# Altium integrated library Analog Devices Operational Amplifiers.IntLib: 2102 symbols (part 70 of 70)
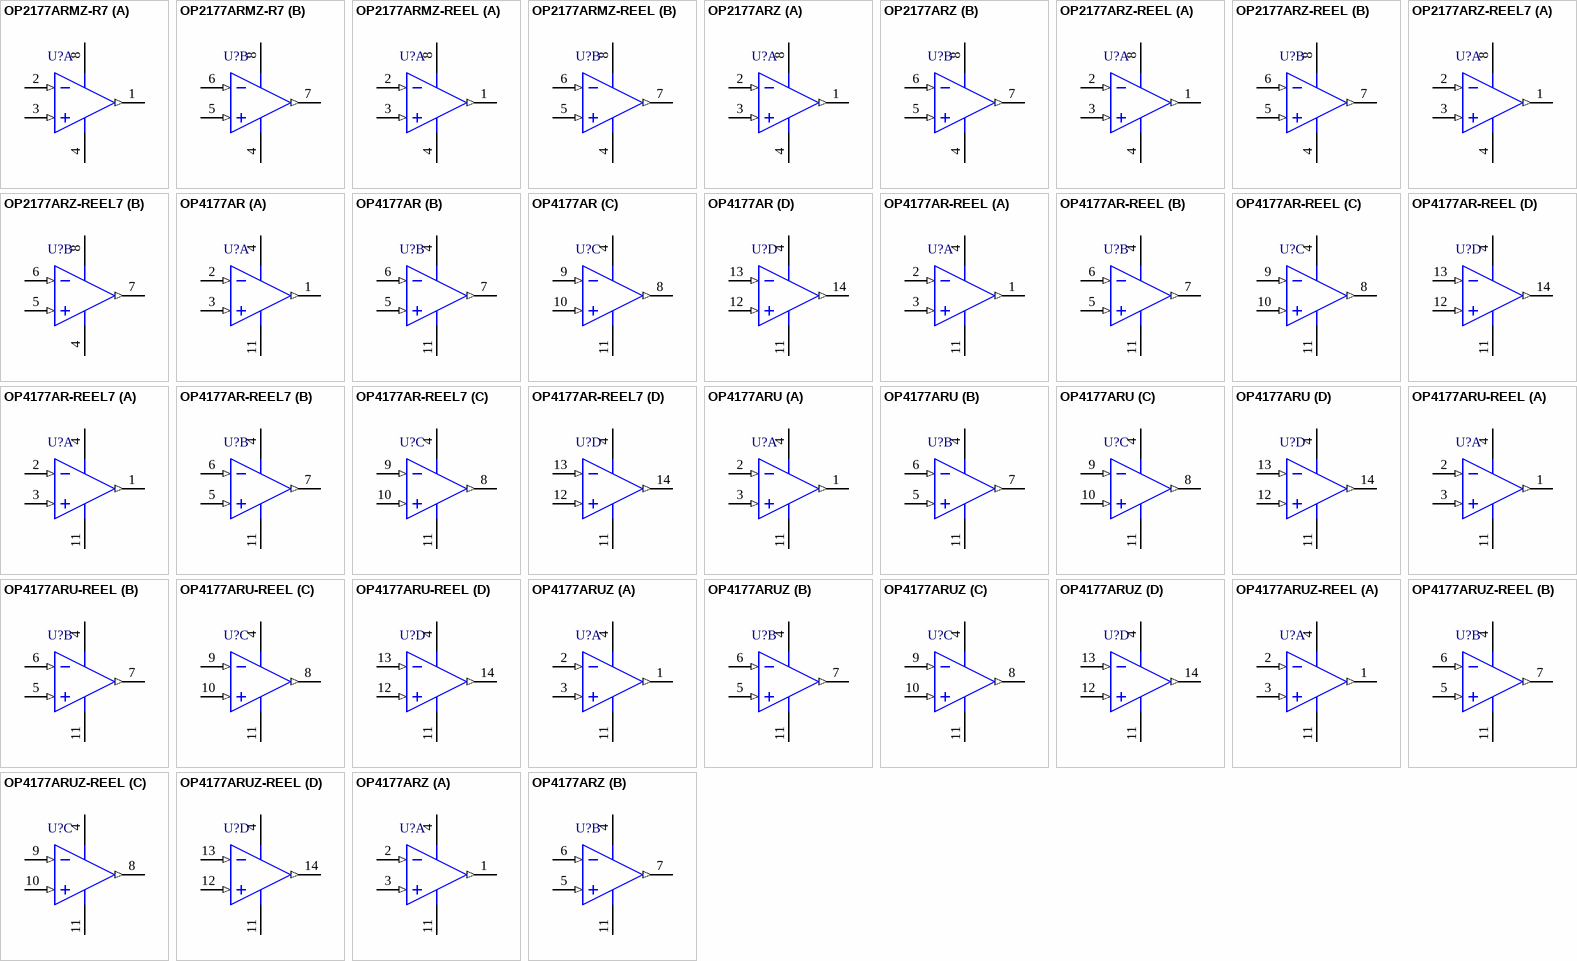
[diagram p183: symbols OP2177ARMZ-R7 to OP4177ARZ]

## OP4177AR-REEL
designator U?
Quad Channel Low Offset Voltage Operational Amplifier, 1.3 MHz BW, 700 mV/us SR, Industrial, 14-pin SOIC (R-14), Reel; Generic Part Number: OP4177; Manufacturer: Analog Devices; PartNumber: OP4177AR-REEL; Amplifiers Per Package: 4; Input Bias Current: 500pA; Input Offset Voltage: 15uV; Iq/Amp: 500uA; Small Signal Bandwidth: 1.3MHz; V Span Max: 36V; V Span Min: 5V; DatasheetVersion: Rev. G; PackageVersion: 060606-A; PackageReference: R-14; PackageDescription: 14-Pin Standard Small Outline Package, Body 8.65 x 3.9 mm, Pitch 1.27 mm; Supplier 1: Digi-Key; Supplier Part Number 1: OP4177AR-REEL-ND; Supplier 2: Newark; Supplier Part Number 2: 02H2605; Slew Rate: 700mV/us; Mounting Technology: Surface Mount; Code_JEDEC: MS-012-AB; ComponentLink1Description: Manufacturer URL; ComponentLink1URL: http://www.analog.com/en/index.html; ComponentLink2Description: Datasheet; ComponentLink2URL: http://www.analog.com/static/imported-files/data_sheets/OP1177_2177_4177.pdf; ComponentLink3Description: Package Specification; ComponentLink3URL: http://www.analog.com/static/imported-files/packages/PKG_PDF/SOIC_Narrow%20(R)/R_14.pdf
footprint ADI-R-14_N (SOIC, 14-Leads, Body 8.65x3.9mm, Pitch 1.27mm, IPC Medium Density)
footprint ADI-R-14_L (SOIC, 14-Leads, Body 8.65x3.9mm, Pitch 1.27mm, IPC High Density)
footprint ADI-R-14_M (SOIC, 14-Leads, Body 8.65x3.9mm, Pitch 1.27mm, IPC Low Density)
pins on every part: 4 +V (power), 11 -V (power)
part A pins: 1 OUT A (out), 2 -IN A (in), 3 +IN A (in)
part B pins: 5 +IN B (in), 6 -IN B (in), 7 OUT B (out)
part C pins: 8 OUT C (out), 9 -IN C (in), 10 +IN C (in)
part D pins: 12 +IN D (in), 13 -IN D (in), 14 OUT D (out)

## OP4177AR-REEL7
designator U?
Quad Channel Low Offset Voltage Operational Amplifier, 1.3 MHz BW, 700 mV/us SR, Industrial, 14-pin SOIC (R-14), Reel; Generic Part Number: OP4177; Manufacturer: Analog Devices; PartNumber: OP4177AR-REEL7; Amplifiers Per Package: 4; Input Bias Current: 500pA; Input Offset Voltage: 15uV; Iq/Amp: 500uA; Small Signal Bandwidth: 1.3MHz; V Span Max: 36V; V Span Min: 5V; DatasheetVersion: Rev. G; PackageVersion: 060606-A; PackageReference: R-14; PackageDescription: 14-Pin Standard Small Outline Package, Body 8.65 x 3.9 mm, Pitch 1.27 mm; Supplier 1: Digi-Key; Supplier Part Number 1: OP4177AR-REEL7-ND; Supplier 2: Newark; Supplier Part Number 2: 02H2606; Slew Rate: 700mV/us; Mounting Technology: Surface Mount; Code_JEDEC: MS-012-AB; ComponentLink1Description: Manufacturer URL; ComponentLink1URL: http://www.analog.com/en/index.html; ComponentLink2Description: Datasheet; ComponentLink2URL: http://www.analog.com/static/imported-files/data_sheets/OP1177_2177_4177.pdf; ComponentLink3Description: Package Specification; ComponentLink3URL: http://www.analog.com/static/imported-files/packages/PKG_PDF/SOIC_Narrow%20(R)/R_14.pdf
footprint ADI-R-14_N (SOIC, 14-Leads, Body 8.65x3.9mm, Pitch 1.27mm, IPC Medium Density)
footprint ADI-R-14_L (SOIC, 14-Leads, Body 8.65x3.9mm, Pitch 1.27mm, IPC High Density)
footprint ADI-R-14_M (SOIC, 14-Leads, Body 8.65x3.9mm, Pitch 1.27mm, IPC Low Density)
pins on every part: 4 +V (power), 11 -V (power)
part A pins: 1 OUT A (out), 2 -IN A (in), 3 +IN A (in)
part B pins: 5 +IN B (in), 6 -IN B (in), 7 OUT B (out)
part C pins: 8 OUT C (out), 9 -IN C (in), 10 +IN C (in)
part D pins: 12 +IN D (in), 13 -IN D (in), 14 OUT D (out)

## OP4177ARU
designator U?
Quad Channel Low Offset Voltage Operational Amplifier, 1.3 MHz BW, 700 mV/us SR, Industrial, 14-pin SOP (RU-14), Tube; Generic Part Number: OP4177; Manufacturer: Analog Devices; PartNumber: OP4177ARU; Amplifiers Per Package: 4; Input Bias Current: 500pA; Input Offset Voltage: 15uV; Iq/Amp: 500uA; Small Signal Bandwidth: 1.3MHz; V Span Max: 36V; V Span Min: 5V; DatasheetVersion: Rev. G; PackageReference: RU-14; PackageDescription: 14-Pin Thin Shrink Small Outline Package, Body 5 x 4.4 mm, Pitch 0.65 mm; Supplier 1: Digi-Key; Supplier Part Number 1: OP4177ARU-ND; Supplier 2: Newark; Supplier Part Number 2: 02E2294; Slew Rate: 700mV/us; Mounting Technology: Surface Mount; Code_JEDEC: MO-153AB-1; ComponentLink1Description: Manufacturer URL; ComponentLink1URL: http://www.analog.com/en/index.html; ComponentLink2Description: Datasheet; ComponentLink2URL: http://www.analog.com/static/imported-files/data_sheets/OP1177_2177_4177.pdf; ComponentLink3Description: Package Specification; ComponentLink3URL: http://www.analog.com/static/imported-files/packages/36057385283879153717235186773RU14.pdf
footprint ADI-RU-14_N (SOP, 14-Leads, Body 5x4.4mm, Pitch 0.65mm, IPC Medium Density)
footprint ADI-RU-14_L (SOP, 14-Leads, Body 5x4.4mm, Pitch 0.65mm, IPC High Density)
footprint ADI-RU-14_M (SOP, 14-Leads, Body 5x4.4mm, Pitch 0.65mm, IPC Low Density)
pins on every part: 4 +V (power), 11 -V (power)
part A pins: 1 OUT A (out), 2 -IN A (in), 3 +IN A (in)
part B pins: 5 +IN B (in), 6 -IN B (in), 7 OUT B (out)
part C pins: 8 OUT C (out), 9 -IN C (in), 10 +IN C (in)
part D pins: 12 +IN D (in), 13 -IN D (in), 14 OUT D (out)

## OP4177ARU-REEL
designator U?
Quad Channel Low Offset Voltage Operational Amplifier, 1.3 MHz BW, 700 mV/us SR, Industrial, 14-pin SOP (RU-14)), Reel; Generic Part Number: OP4177; Manufacturer: Analog Devices; PartNumber: OP4177ARU-REEL; Amplifiers Per Package: 4; Input Bias Current: 500pA; Input Offset Voltage: 15uV; Iq/Amp: 500uA; Small Signal Bandwidth: 1.3MHz; V Span Max: 36V; V Span Min: 5V; DatasheetVersion: Rev. G; PackageReference: RU-14; PackageDescription: 14-Pin Thin Shrink Small Outline Package, Body 5 x 4.4 mm, Pitch 0.65 mm; Supplier 1: Digi-Key; Supplier Part Number 1: OP4177ARU-REEL-ND; Supplier 2: Newark; Supplier Part Number 2: 88C9576; Slew Rate: 700mV/us; Mounting Technology: Surface Mount; Code_JEDEC: MO-153AB-1; ComponentLink1Description: Manufacturer URL; ComponentLink1URL: http://www.analog.com/en/index.html; ComponentLink2Description: Datasheet; ComponentLink2URL: http://www.analog.com/static/imported-files/data_sheets/OP1177_2177_4177.pdf; ComponentLink3Description: Package Specification; ComponentLink3URL: http://www.analog.com/static/imported-files/packages/36057385283879153717235186773RU14.pdf
footprint ADI-RU-14_N (SOP, 14-Leads, Body 5x4.4mm, Pitch 0.65mm, IPC Medium Density)
footprint ADI-RU-14_L (SOP, 14-Leads, Body 5x4.4mm, Pitch 0.65mm, IPC High Density)
footprint ADI-RU-14_M (SOP, 14-Leads, Body 5x4.4mm, Pitch 0.65mm, IPC Low Density)
pins on every part: 4 +V (power), 11 -V (power)
part A pins: 1 OUT A (out), 2 -IN A (in), 3 +IN A (in)
part B pins: 5 +IN B (in), 6 -IN B (in), 7 OUT B (out)
part C pins: 8 OUT C (out), 9 -IN C (in), 10 +IN C (in)
part D pins: 12 +IN D (in), 13 -IN D (in), 14 OUT D (out)

## OP4177ARUZ
designator U?
Quad Channel Low Offset Voltage Operational Amplifier, 1.3 MHz BW, 700 mV/us SR, Industrial, 14-pin SOP (RU-14), Tube; Generic Part Number: OP4177; Manufacturer: Analog Devices; PartNumber: OP4177ARUZ; Amplifiers Per Package: 4; Input Bias Current: 500pA; Input Offset Voltage: 15uV; Iq/Amp: 500uA; Small Signal Bandwidth: 1.3MHz; V Span Max: 36V; V Span Min: 5V; DatasheetVersion: Rev. G; PackageReference: RU-14; PackageDescription: 14-Pin Thin Shrink Small Outline Package, Body 5 x 4.4 mm, Pitch 0.65 mm; Supplier 1: Digi-Key; Supplier Part Number 1: OP4177ARUZ-ND; Supplier 2: Farnell; Supplier Part Number 2: 1661004; Supplier 3: Newark; Supplier Part Number 3: 19M8985; Slew Rate: 700mV/us; Mounting Technology: Surface Mount; Code_JEDEC: MO-153AB-1; ComponentLink1Description: Manufacturer URL; ComponentLink1URL: http://www.analog.com/en/index.html; ComponentLink2Description: Datasheet; ComponentLink2URL: http://www.analog.com/static/imported-files/data_sheets/OP1177_2177_4177.pdf; ComponentLink3Description: Package Specification; ComponentLink3URL: http://www.analog.com/static/imported-files/packages/36057385283879153717235186773RU14.pdf
footprint ADI-RU-14_N (SOP, 14-Leads, Body 5x4.4mm, Pitch 0.65mm, IPC Medium Density)
footprint ADI-RU-14_L (SOP, 14-Leads, Body 5x4.4mm, Pitch 0.65mm, IPC High Density)
footprint ADI-RU-14_M (SOP, 14-Leads, Body 5x4.4mm, Pitch 0.65mm, IPC Low Density)
pins on every part: 4 +V (power), 11 -V (power)
part A pins: 1 OUT A (out), 2 -IN A (in), 3 +IN A (in)
part B pins: 5 +IN B (in), 6 -IN B (in), 7 OUT B (out)
part C pins: 8 OUT C (out), 9 -IN C (in), 10 +IN C (in)
part D pins: 12 +IN D (in), 13 -IN D (in), 14 OUT D (out)

## OP4177ARUZ-REEL
designator U?
Quad Channel Low Offset Voltage Operational Amplifier, 1.3 MHz BW, 700 mV/us SR, Industrial, 14-pin SOP (RU-14)), Reel; Generic Part Number: OP4177; Manufacturer: Analog Devices; PartNumber: OP4177ARUZ-REEL; Amplifiers Per Package: 4; Input Bias Current: 500pA; Input Offset Voltage: 15uV; Iq/Amp: 500uA; Small Signal Bandwidth: 1.3MHz; V Span Max: 36V; V Span Min: 5V; DatasheetVersion: Rev. G; PackageReference: RU-14; PackageDescription: 14-Pin Thin Shrink Small Outline Package, Body 5 x 4.4 mm, Pitch 0.65 mm; Supplier 1: Digi-Key; Supplier Part Number 1: OP4177ARUZ-REELTR-ND; Supplier 2: Digi-Key; Supplier Part Number 2: OP4177ARUZ-REELCT-ND; Supplier 3: Digi-Key; Supplier Part Number 3: OP4177ARUZ-REELDKR-ND; Supplier 4: Newark; Supplier Part Number 4: 59K8901; Slew Rate: 700mV/us; Mounting Technology: Surface Mount; Code_JEDEC: MO-153AB-1; ComponentLink1Description: Manufacturer URL; ComponentLink1URL: http://www.analog.com/en/index.html; ComponentLink2Description: Datasheet; ComponentLink2URL: http://www.analog.com/static/imported-files/data_sheets/OP1177_2177_4177.pdf; ComponentLink3Description: Package Specification; ComponentLink3URL: http://www.analog.com/static/imported-files/packages/36057385283879153717235186773RU14.pdf
footprint ADI-RU-14_N (SOP, 14-Leads, Body 5x4.4mm, Pitch 0.65mm, IPC Medium Density)
footprint ADI-RU-14_L (SOP, 14-Leads, Body 5x4.4mm, Pitch 0.65mm, IPC High Density)
footprint ADI-RU-14_M (SOP, 14-Leads, Body 5x4.4mm, Pitch 0.65mm, IPC Low Density)
pins on every part: 4 +V (power), 11 -V (power)
part A pins: 1 OUT A (out), 2 -IN A (in), 3 +IN A (in)
part B pins: 5 +IN B (in), 6 -IN B (in), 7 OUT B (out)
part C pins: 8 OUT C (out), 9 -IN C (in), 10 +IN C (in)
part D pins: 12 +IN D (in), 13 -IN D (in), 14 OUT D (out)

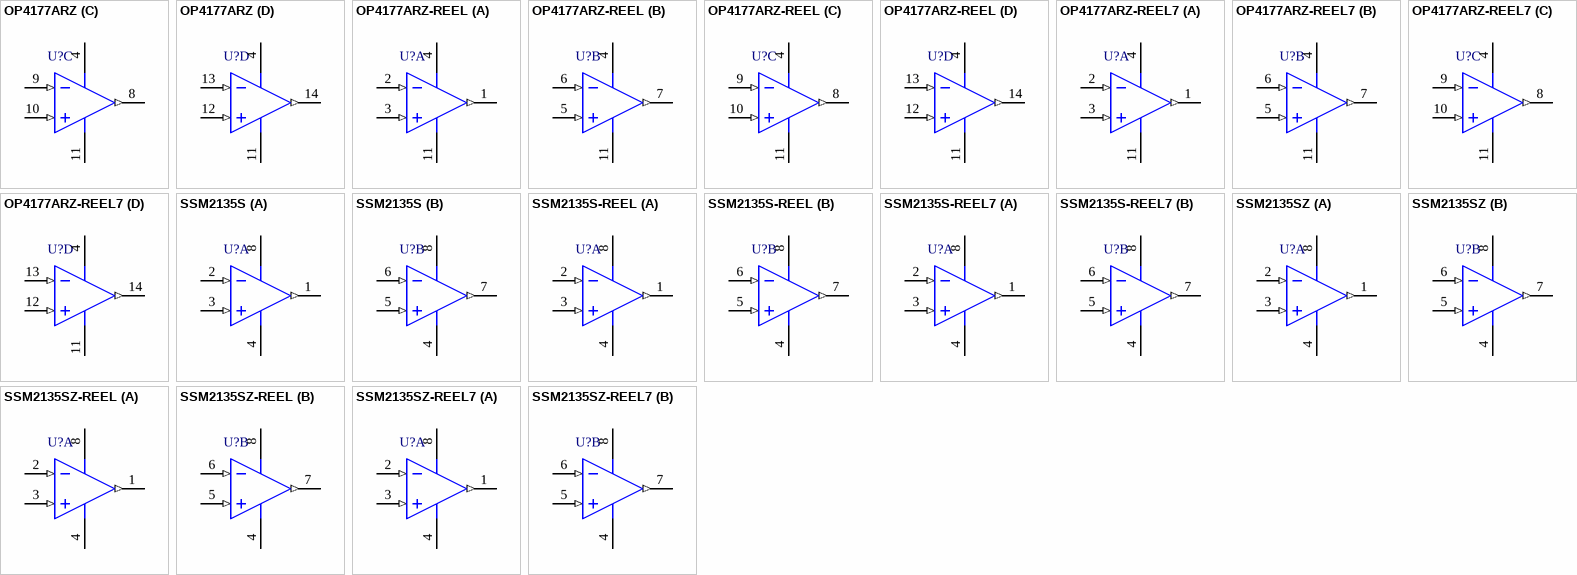
[diagram p114: symbols OP4177ARZ to SSM2135SZ-REEL7]

## OP4177ARZ
designator U?
Quad Channel Low Offset Voltage Operational Amplifier, 1.3 MHz BW, 700 mV/us SR, Industrial, 14-pin SOIC (R-14), Tube; Generic Part Number: OP4177; Manufacturer: Analog Devices; PartNumber: OP4177ARZ; Amplifiers Per Package: 4; Input Bias Current: 500pA; Input Offset Voltage: 15uV; Iq/Amp: 500uA; Small Signal Bandwidth: 1.3MHz; V Span Max: 36V; V Span Min: 5V; DatasheetVersion: Rev. G; PackageVersion: 060606-A; PackageReference: R-14; PackageDescription: 14-Pin Standard Small Outline Package, Body 8.65 x 3.9 mm, Pitch 1.27 mm; Supplier 1: Digi-Key; Supplier Part Number 1: OP4177ARZ-ND; Supplier 2: Farnell; Supplier Part Number 2: 1389170; Supplier 3: Newark; Supplier Part Number 3: 59K8902; Slew Rate: 700mV/us; Mounting Technology: Surface Mount; Code_JEDEC: MS-012-AB; ComponentLink1Description: Manufacturer URL; ComponentLink1URL: http://www.analog.com/en/index.html; ComponentLink2Description: Datasheet; ComponentLink2URL: http://www.analog.com/static/imported-files/data_sheets/OP1177_2177_4177.pdf; ComponentLink3Description: Package Specification; ComponentLink3URL: http://www.analog.com/static/imported-files/packages/PKG_PDF/SOIC_Narrow%20(R)/R_14.pdf
footprint ADI-R-14_N (SOIC, 14-Leads, Body 8.65x3.9mm, Pitch 1.27mm, IPC Medium Density)
footprint ADI-R-14_L (SOIC, 14-Leads, Body 8.65x3.9mm, Pitch 1.27mm, IPC High Density)
footprint ADI-R-14_M (SOIC, 14-Leads, Body 8.65x3.9mm, Pitch 1.27mm, IPC Low Density)
pins on every part: 4 +V (power), 11 -V (power)
part A pins: 1 OUT A (out), 2 -IN A (in), 3 +IN A (in)
part B pins: 5 +IN B (in), 6 -IN B (in), 7 OUT B (out)
part C pins: 8 OUT C (out), 9 -IN C (in), 10 +IN C (in)
part D pins: 12 +IN D (in), 13 -IN D (in), 14 OUT D (out)

## OP4177ARZ-REEL
designator U?
Quad Channel Low Offset Voltage Operational Amplifier, 1.3 MHz BW, 700 mV/us SR, Industrial, 14-pin SOIC (R-14)), Reel; Generic Part Number: OP4177; Manufacturer: Analog Devices; PartNumber: OP4177ARZ-REEL; Amplifiers Per Package: 4; Input Bias Current: 500pA; Input Offset Voltage: 15uV; Iq/Amp: 500uA; Small Signal Bandwidth: 1.3MHz; V Span Max: 36V; V Span Min: 5V; DatasheetVersion: Rev. G; PackageVersion: 060606-A; PackageReference: R-14; PackageDescription: 14-Pin Standard Small Outline Package, Body 8.65 x 3.9 mm, Pitch 1.27 mm; Supplier 1: Digi-Key; Supplier Part Number 1: OP4177ARZ-REEL-ND; Slew Rate: 700mV/us; Mounting Technology: Surface Mount; Code_JEDEC: MS-012-AB; ComponentLink1Description: Manufacturer URL; ComponentLink1URL: http://www.analog.com/en/index.html; ComponentLink2Description: Datasheet; ComponentLink2URL: http://www.analog.com/static/imported-files/data_sheets/OP1177_2177_4177.pdf; ComponentLink3Description: Package Specification; ComponentLink3URL: http://www.analog.com/static/imported-files/packages/PKG_PDF/SOIC_Narrow%20(R)/R_14.pdf
footprint ADI-R-14_N (SOIC, 14-Leads, Body 8.65x3.9mm, Pitch 1.27mm, IPC Medium Density)
footprint ADI-R-14_L (SOIC, 14-Leads, Body 8.65x3.9mm, Pitch 1.27mm, IPC High Density)
footprint ADI-R-14_M (SOIC, 14-Leads, Body 8.65x3.9mm, Pitch 1.27mm, IPC Low Density)
pins on every part: 4 +V (power), 11 -V (power)
part A pins: 1 OUT A (out), 2 -IN A (in), 3 +IN A (in)
part B pins: 5 +IN B (in), 6 -IN B (in), 7 OUT B (out)
part C pins: 8 OUT C (out), 9 -IN C (in), 10 +IN C (in)
part D pins: 12 +IN D (in), 13 -IN D (in), 14 OUT D (out)

## OP4177ARZ-REEL7
designator U?
Quad Channel Low Offset Voltage Operational Amplifier, 1.3 MHz BW, 700 mV/us SR, Industrial, 14-pin SOIC (R-14), Reel; Generic Part Number: OP4177; Manufacturer: Analog Devices; PartNumber: OP4177ARZ-REEL7; Amplifiers Per Package: 4; Input Bias Current: 500pA; Input Offset Voltage: 15uV; Iq/Amp: 500uA; Small Signal Bandwidth: 1.3MHz; V Span Max: 36V; V Span Min: 5V; DatasheetVersion: Rev. G; PackageVersion: 060606-A; PackageReference: R-14; PackageDescription: 14-Pin Standard Small Outline Package, Body 8.65 x 3.9 mm, Pitch 1.27 mm; Supplier 1: Digi-Key; Supplier Part Number 1: OP4177ARZ-REEL7-ND; Supplier 2: Newark; Supplier Part Number 2: 59K8904; Slew Rate: 700mV/us; Mounting Technology: Surface Mount; Code_JEDEC: MS-012-AB; ComponentLink1Description: Manufacturer URL; ComponentLink1URL: http://www.analog.com/en/index.html; ComponentLink2Description: Datasheet; ComponentLink2URL: http://www.analog.com/static/imported-files/data_sheets/OP1177_2177_4177.pdf; ComponentLink3Description: Package Specification; ComponentLink3URL: http://www.analog.com/static/imported-files/packages/PKG_PDF/SOIC_Narrow%20(R)/R_14.pdf
footprint ADI-R-14_N (SOIC, 14-Leads, Body 8.65x3.9mm, Pitch 1.27mm, IPC Medium Density)
footprint ADI-R-14_L (SOIC, 14-Leads, Body 8.65x3.9mm, Pitch 1.27mm, IPC High Density)
footprint ADI-R-14_M (SOIC, 14-Leads, Body 8.65x3.9mm, Pitch 1.27mm, IPC Low Density)
pins on every part: 4 +V (power), 11 -V (power)
part A pins: 1 OUT A (out), 2 -IN A (in), 3 +IN A (in)
part B pins: 5 +IN B (in), 6 -IN B (in), 7 OUT B (out)
part C pins: 8 OUT C (out), 9 -IN C (in), 10 +IN C (in)
part D pins: 12 +IN D (in), 13 -IN D (in), 14 OUT D (out)

## SSM2135S
designator U?
Double Channel Excellent Sonic Characteristics Operational Amplifier, 3.5 MHz BW, 900 mV/us SR, Industrial, 8-pin SOIC (R-8), Tube; Generic Part Number: SSM2135; Manufacturer: Analog Devices; PartNumber: SSM2135S; Amplifiers Per Package: 2; Input Bias Current: 300nA; Input Offset Voltage: 200uV; Iq/Amp: 3.8mA; Small Signal Bandwidth: 3.5MHz; V Span Max: 36V; V Span Min: 4V; DatasheetVersion: Rev. G; PackageVersion: 060506-A; PackageReference: R-8; PackageDescription: 8-Pin Standard Small Outline Package, Body 3.9 x 4.9 mm, Pitch 1.27 mm; Supplier 1: Digi-Key; Supplier Part Number 1: SSM2135S-ND; Slew Rate: 900mV/us; Mounting Technology: Surface Mount; Code_JEDEC: MS-012-AA; ComponentLink1Description: Manufacturer URL; ComponentLink1URL: http://www.analog.com/en/index.html; ComponentLink2Description: Datasheet; ComponentLink2URL: http://www.analog.com/static/imported-files/data_sheets/SSM2135.pdf; ComponentLink3Description: Package Specification; ComponentLink3URL: http://www.analog.com/static/imported-files/packages/PKG_PDF/SOIC_Narrow%20(R)/R_8.pdf
footprint ADI-R-8_N (SOIC, 8-Leads, Body 4.9x3.9mm, Pitch 1.27mm, IPC Medium Density)
footprint ADI-R-8_L (SOIC, 8-Leads, Body 4.9x3.9mm, Pitch 1.27mm, IPC High Density)
footprint ADI-R-8_M (SOIC, 8-Leads, Body 4.9x3.9mm, Pitch 1.27mm, IPC Low Density)
pins on every part: 4 V-/GND (power), 8 +V (power)
part A pins: 1 OUT A (out), 2 -IN A (in), 3 +IN A (in)
part B pins: 5 +IN B (in), 6 -IN B (in), 7 OUT B (out)

## SSM2135S-REEL
designator U?
Double Channel Excellent Sonic Characteristics Operational Amplifier, 3.5 MHz BW, 900 mV/us SR, Industrial, 8-pin SOIC (R-8), Reel; Generic Part Number: SSM2135; Manufacturer: Analog Devices; PartNumber: SSM2135S-REEL; Amplifiers Per Package: 2; Input Bias Current: 300nA; Input Offset Voltage: 200uV; Iq/Amp: 3.8mA; Small Signal Bandwidth: 3.5MHz; V Span Max: 36V; V Span Min: 4V; DatasheetVersion: Rev. G; PackageVersion: 060506-A; PackageReference: R-8; PackageDescription: 8-Pin Standard Small Outline Package, Body 3.9 x 4.9 mm, Pitch 1.27 mm; Supplier 1: Digi-Key; Supplier Part Number 1: SSM2135S-REEL-ND; Supplier 2: Newark; Supplier Part Number 2: 13B4807; Slew Rate: 900mV/us; Mounting Technology: Surface Mount; Code_JEDEC: MS-012-AA; ComponentLink1Description: Manufacturer URL; ComponentLink1URL: http://www.analog.com/en/index.html; ComponentLink2Description: Datasheet; ComponentLink2URL: http://www.analog.com/static/imported-files/data_sheets/SSM2135.pdf; ComponentLink3Description: Package Specification; ComponentLink3URL: http://www.analog.com/static/imported-files/packages/PKG_PDF/SOIC_Narrow%20(R)/R_8.pdf
footprint ADI-R-8_N (SOIC, 8-Leads, Body 4.9x3.9mm, Pitch 1.27mm, IPC Medium Density)
footprint ADI-R-8_L (SOIC, 8-Leads, Body 4.9x3.9mm, Pitch 1.27mm, IPC High Density)
footprint ADI-R-8_M (SOIC, 8-Leads, Body 4.9x3.9mm, Pitch 1.27mm, IPC Low Density)
pins on every part: 4 V-/GND (power), 8 +V (power)
part A pins: 1 OUT A (out), 2 -IN A (in), 3 +IN A (in)
part B pins: 5 +IN B (in), 6 -IN B (in), 7 OUT B (out)

## SSM2135S-REEL7
designator U?
Double Channel Excellent Sonic Characteristics Operational Amplifier, 3.5 MHz BW, 900 mV/us SR, Industrial, 8-pin SOIC (R-8), Reel; Generic Part Number: SSM2135; Manufacturer: Analog Devices; PartNumber: SSM2135S-REEL7; Amplifiers Per Package: 2; Input Bias Current: 300nA; Input Offset Voltage: 200uV; Iq/Amp: 3.8mA; Small Signal Bandwidth: 3.5MHz; V Span Max: 36V; V Span Min: 4V; DatasheetVersion: Rev. G; PackageVersion: 060506-A; PackageReference: R-8; PackageDescription: 8-Pin Standard Small Outline Package, Body 3.9 x 4.9 mm, Pitch 1.27 mm; Supplier 1: Digi-Key; Supplier Part Number 1: SSM2135S-REEL7-ND; Supplier 2: Newark; Supplier Part Number 2: 13B4808; Slew Rate: 900mV/us; Mounting Technology: Surface Mount; Code_JEDEC: MS-012-AA; ComponentLink1Description: Manufacturer URL; ComponentLink1URL: http://www.analog.com/en/index.html; ComponentLink2Description: Datasheet; ComponentLink2URL: http://www.analog.com/static/imported-files/data_sheets/SSM2135.pdf; ComponentLink3Description: Package Specification; ComponentLink3URL: http://www.analog.com/static/imported-files/packages/PKG_PDF/SOIC_Narrow%20(R)/R_8.pdf
footprint ADI-R-8_N (SOIC, 8-Leads, Body 4.9x3.9mm, Pitch 1.27mm, IPC Medium Density)
footprint ADI-R-8_L (SOIC, 8-Leads, Body 4.9x3.9mm, Pitch 1.27mm, IPC High Density)
footprint ADI-R-8_M (SOIC, 8-Leads, Body 4.9x3.9mm, Pitch 1.27mm, IPC Low Density)
pins on every part: 4 V-/GND (power), 8 +V (power)
part A pins: 1 OUT A (out), 2 -IN A (in), 3 +IN A (in)
part B pins: 5 +IN B (in), 6 -IN B (in), 7 OUT B (out)

## SSM2135SZ
designator U?
Double Channel Excellent Sonic Characteristics Operational Amplifier, 3.5 MHz BW, 900 mV/us SR, Industrial, 8-pin SOIC (R-8), Tube; Generic Part Number: SSM2135; Manufacturer: Analog Devices; PartNumber: SSM2135SZ; Amplifiers Per Package: 2; Input Bias Current: 300nA; Input Offset Voltage: 200uV; Iq/Amp: 3.8mA; Small Signal Bandwidth: 3.5MHz; V Span Max: 36V; V Span Min: 4V; DatasheetVersion: Rev. G; PackageVersion: 060506-A; PackageReference: R-8; PackageDescription: 8-Pin Standard Small Outline Package, Body 3.9 x 4.9 mm, Pitch 1.27 mm; Supplier 1: Digi-Key; Supplier Part Number 1: SSM2135SZ-ND; Supplier 2: Farnell; Supplier Part Number 2: 9994475; Supplier 3: Newark; Supplier Part Number 3: 88H0688; Slew Rate: 900mV/us; Mounting Technology: Surface Mount; Code_JEDEC: MS-012-AA; ComponentLink1Description: Manufacturer URL; ComponentLink1URL: http://www.analog.com/en/index.html; ComponentLink2Description: Datasheet; ComponentLink2URL: http://www.analog.com/static/imported-files/data_sheets/SSM2135.pdf; ComponentLink3Description: Package Specification; ComponentLink3URL: http://www.analog.com/static/imported-files/packages/PKG_PDF/SOIC_Narrow%20(R)/R_8.pdf
footprint ADI-R-8_N (SOIC, 8-Leads, Body 4.9x3.9mm, Pitch 1.27mm, IPC Medium Density)
footprint ADI-R-8_L (SOIC, 8-Leads, Body 4.9x3.9mm, Pitch 1.27mm, IPC High Density)
footprint ADI-R-8_M (SOIC, 8-Leads, Body 4.9x3.9mm, Pitch 1.27mm, IPC Low Density)
pins on every part: 4 V-/GND (power), 8 +V (power)
part A pins: 1 OUT A (out), 2 -IN A (in), 3 +IN A (in)
part B pins: 5 +IN B (in), 6 -IN B (in), 7 OUT B (out)

## SSM2135SZ-REEL
designator U?
Double Channel Excellent Sonic Characteristics Operational Amplifier, 3.5 MHz BW, 900 mV/us SR, Industrial, 8-pin SOIC (R-8), Reel; Generic Part Number: SSM2135; Manufacturer: Analog Devices; PartNumber: SSM2135SZ-REEL; Amplifiers Per Package: 2; Input Bias Current: 300nA; Input Offset Voltage: 200uV; Iq/Amp: 3.8mA; Small Signal Bandwidth: 3.5MHz; V Span Max: 36V; V Span Min: 4V; DatasheetVersion: Rev. G; PackageVersion: 060506-A; PackageReference: R-8; PackageDescription: 8-Pin Standard Small Outline Package, Body 3.9 x 4.9 mm, Pitch 1.27 mm; Supplier 1: Digi-Key; Supplier Part Number 1: SSM2135SZ-REEL-ND; Supplier 2: Newark; Supplier Part Number 2: 88H0689; Slew Rate: 900mV/us; Mounting Technology: Surface Mount; Code_JEDEC: MS-012-AA; ComponentLink1Description: Manufacturer URL; ComponentLink1URL: http://www.analog.com/en/index.html; ComponentLink2Description: Datasheet; ComponentLink2URL: http://www.analog.com/static/imported-files/data_sheets/SSM2135.pdf; ComponentLink3Description: Package Specification; ComponentLink3URL: http://www.analog.com/static/imported-files/packages/PKG_PDF/SOIC_Narrow%20(R)/R_8.pdf
footprint ADI-R-8_N (SOIC, 8-Leads, Body 4.9x3.9mm, Pitch 1.27mm, IPC Medium Density)
footprint ADI-R-8_L (SOIC, 8-Leads, Body 4.9x3.9mm, Pitch 1.27mm, IPC High Density)
footprint ADI-R-8_M (SOIC, 8-Leads, Body 4.9x3.9mm, Pitch 1.27mm, IPC Low Density)
pins on every part: 4 V-/GND (power), 8 +V (power)
part A pins: 1 OUT A (out), 2 -IN A (in), 3 +IN A (in)
part B pins: 5 +IN B (in), 6 -IN B (in), 7 OUT B (out)

## SSM2135SZ-REEL7
designator U?
Double Channel Excellent Sonic Characteristics Operational Amplifier, 3.5 MHz BW, 900 mV/us SR, Industrial, 8-pin SOIC (R-8), Reel; Generic Part Number: SSM2135; Manufacturer: Analog Devices; PartNumber: SSM2135SZ-REEL7; Amplifiers Per Package: 2; Input Bias Current: 300nA; Input Offset Voltage: 200uV; Iq/Amp: 3.8mA; Small Signal Bandwidth: 3.5MHz; V Span Max: 36V; V Span Min: 4V; DatasheetVersion: Rev. G; PackageVersion: 060506-A; PackageReference: R-8; PackageDescription: 8-Pin Standard Small Outline Package, Body 3.9 x 4.9 mm, Pitch 1.27 mm; Supplier 1: Digi-Key; Supplier Part Number 1: SSM2135SZ-REEL7-ND; Supplier 2: Newark; Supplier Part Number 2: 88H0690; Slew Rate: 900mV/us; Mounting Technology: Surface Mount; Code_JEDEC: MS-012-AA; ComponentLink1Description: Manufacturer URL; ComponentLink1URL: http://www.analog.com/en/index.html; ComponentLink2Description: Datasheet; ComponentLink2URL: http://www.analog.com/static/imported-files/data_sheets/SSM2135.pdf; ComponentLink3Description: Package Specification; ComponentLink3URL: http://www.analog.com/static/imported-files/packages/PKG_PDF/SOIC_Narrow%20(R)/R_8.pdf
footprint ADI-R-8_N (SOIC, 8-Leads, Body 4.9x3.9mm, Pitch 1.27mm, IPC Medium Density)
footprint ADI-R-8_L (SOIC, 8-Leads, Body 4.9x3.9mm, Pitch 1.27mm, IPC High Density)
footprint ADI-R-8_M (SOIC, 8-Leads, Body 4.9x3.9mm, Pitch 1.27mm, IPC Low Density)
pins on every part: 4 V-/GND (power), 8 +V (power)
part A pins: 1 OUT A (out), 2 -IN A (in), 3 +IN A (in)
part B pins: 5 +IN B (in), 6 -IN B (in), 7 OUT B (out)